# EAGLE library part 686112183822 (library Eagle_FPC_CONNECTOR_AND_FFC_CAB (rev18c))
686112183822 WR-FPC 1.00mm SMT ZIF Vertical Type A <http://katalog.we-online.de/media/images/v2/Family_WR-FPC_6861xx183822.jpg> Details see: http://katalog.we-online.de/en/em/FPC_1_00_SMT_ZIF_VERTICAL_TYPE_A_6861xx183822 Created by Yingchun,shan 2016 (C) Wurth Elektronik
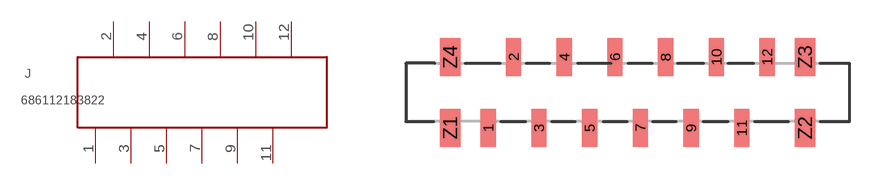
[diagram p168: symbol with the pads of 686112183822; footprint 686112183822]

Designator prefix J

## 686112183822  [686112183822]
1  1  pas
2  2  pas
3  3  pas
4  4  pas
5  5  pas
6  6  pas
7  7  pas
8  8  pas
9  9  pas
10  10  pas
11  11  pas
12  12  pas

## Footprint 686112183822 (pad centres in mm)
smd 0.6 x 1.5: 1 -5.5,-1.4; 2 -4.5,1.4; 3 -3.5,-1.4; 4 -2.5,1.4; 5 -1.5,-1.4; 6 -0.5,1.4; 7 0.5,-1.4; 8 1.5,1.4; 9 2.5,-1.4; 10 3.5,1.4; 11 4.5,-1.4; 12 5.5,1.4
smd 0.8 x 1.5: Z1 -7,-1.4; Z2 7,-1.4; Z3 7,1.4; Z4 -7,1.4